# Altium footprint library 74HC14D.PcbLib: 3 footprints
Each footprint in its own frame and in the unit in brackets; x right, y up, seen from the top. Pads: shape width x height; smd on the part's side, far side on the other; paste and mask are expansions set on the pad; w line width, h text height; cw(c..) or ccw(c..) is an arc to the next point about the centre after c.
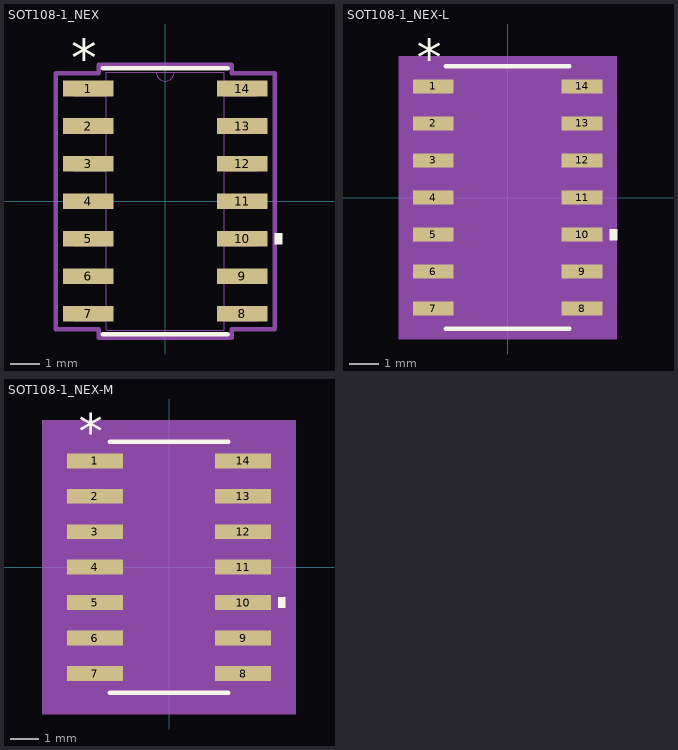
[diagram p0: the footprints below, top view; thin cyan lines are the x and y axes]

## SOT108-1_NEX [mil]
pads (14):
  rect 67x21 smd paste+0 mask+0: 1(-102.5,150) 2(-102.5,100) 3(-102.5,50) 4(-102.5,0) 5(-102.5,-50) 6(-102.5,-100) 7(-102.5,-150) 8(102.5,-150) 9(102.5,-100) 10(102.5,-50) 11(102.5,0) 12(102.5,50) 13(102.5,100) 14(102.5,150)
Top Overlay:
  region: 146,-42.5 156,-42.5 156,-57.5 146,-57.5
  lines w6: -83.5,-177 83.5,-177 ; -83.5,177 83.5,177
  text "*" at -125,166 h50
Mechanical 13:
  lines w0: -12,172 ccw(c0,172) 12,172
  lines w1: -122,-159.5 -78.5,-159.5 -78.5,-140.5 -122,-140.5 -122,-159.5 ; -122,-109.5 -78.5,-109.5 -78.5,-90.5 -122,-90.5 -122,-109.5 ; -122,-59.5 -78.5,-59.5 -78.5,-40.5 -122,-40.5 -122,-59.5 ; -122,-9.5 -78.5,-9.5 -78.5,9.5 -122,9.5 -122,-9.5 ; -122,40.5 -78.5,40.5 -78.5,59.5 -122,59.5 -122,40.5 ; -122,90.5 -78.5,90.5 -78.5,109.5 -122,109.5 -122,90.5 ; -122,140.5 -78.5,140.5 -78.5,159.5 -122,159.5 -122,140.5 ; -78.5,-172 -78.5,172 78.5,172 78.5,-172 -78.5,-172 ; 78.5,-159.5 122,-159.5 122,-140.5 78.5,-140.5 78.5,-159.5 ; 78.5,-109.5 122,-109.5 122,-90.5 78.5,-90.5 78.5,-109.5 ; 78.5,-59.5 122,-59.5 122,-40.5 78.5,-40.5 78.5,-59.5 ; 78.5,-9.5 122,-9.5 122,9.5 78.5,9.5 78.5,-9.5 ; 78.5,40.5 122,40.5 122,59.5 78.5,59.5 78.5,40.5 ; 78.5,90.5 122,90.5 122,109.5 78.5,109.5 78.5,90.5 ; 78.5,140.5 122,140.5 122,159.5 78.5,159.5 78.5,140.5
  text "*" at -76,119 h50
Mechanical 15:
  lines w6: -146,-170.5 -88.5,-170.5 -88.5,-182 88.5,-182 88.5,-170.5 146,-170.5 146,170.5 88.5,170.5 88.5,182 -88.5,182 -88.5,170.5 -146,170.5 -146,-170.5
3D body "SOT108-1_NEX.step": height 69.09, standoff 0, extent -122.01,-172.01 122.01,172.01

## SOT108-1_NEX-L [mil]
pads (14):
  rect 55x19 smd paste+0 mask+0: 1(-100.5,150) 2(-100.5,100) 3(-100.5,50) 4(-100.5,0) 5(-100.5,-50) 6(-100.5,-100) 7(-100.5,-150) 8(100.5,-150) 9(100.5,-100) 10(100.5,-50) 11(100.5,0) 12(100.5,50) 13(100.5,100) 14(100.5,150)
Top Overlay:
  region: 138,-42.5 148,-42.5 148,-57.5 138,-57.5
  lines w6: -83.5,-177 83.5,-177 ; -83.5,177 83.5,177
  text "*" at -123,164 h50
Mechanical 5:
  region: 147,-191 -147,-191 -147,191 147,191
Mechanical 13:
  lines w0: -12,172 ccw(c0,172) 12,172
  lines w1: -122,-159.5 -122,-140.5 -78.5,-140.5 -78.5,-159.5 -122,-159.5 ; -122,-109.5 -122,-90.5 -78.5,-90.5 -78.5,-109.5 -122,-109.5 ; -122,-59.5 -122,-40.5 -78.5,-40.5 -78.5,-59.5 -122,-59.5 ; -122,-9.5 -122,9.5 -78.5,9.5 -78.5,-9.5 -122,-9.5 ; -122,40.5 -122,59.5 -78.5,59.5 -78.5,40.5 -122,40.5 ; -122,90.5 -122,109.5 -78.5,109.5 -78.5,90.5 -122,90.5 ; -122,140.5 -122,159.5 -78.5,159.5 -78.5,140.5 -122,140.5 ; -78.5,-172 78.5,-172 78.5,172 -78.5,172 -78.5,-172 ; 78.5,-159.5 78.5,-140.5 122,-140.5 122,-159.5 78.5,-159.5 ; 78.5,-109.5 78.5,-90.5 122,-90.5 122,-109.5 78.5,-109.5 ; 78.5,-59.5 78.5,-40.5 122,-40.5 122,-59.5 78.5,-59.5 ; 78.5,-9.5 78.5,9.5 122,9.5 122,-9.5 78.5,-9.5 ; 78.5,40.5 78.5,59.5 122,59.5 122,40.5 78.5,40.5 ; 78.5,90.5 78.5,109.5 122,109.5 122,90.5 78.5,90.5 ; 78.5,140.5 78.5,159.5 122,159.5 122,140.5 78.5,140.5
  text "*" at -76,119 h50
Mechanical 15:
  region: -82.5,-163.5 -132,-163.5 -132,163.5 -82.5,163.5 -82.5,176 82.5,176 82.5,163.5 132,163.5 132,-163.5 82.5,-163.5 82.5,-176 -82.5,-176
  lines w6: -132,-163.5 -132,163.5 -82.5,163.5 -82.5,176 82.5,176 82.5,163.5 132,163.5 132,-163.5 82.5,-163.5 82.5,-176 -82.5,-176 -82.5,-163.5 -132,-163.5
3D body "SOT108-1_NEX.step": height 69.09, standoff 0, extent -122.01,-172.01 122.01,172.01

## SOT108-1_NEX-M [mil]
pads (14):
  rect 79x21 smd paste+0 mask+0: 1(-104.5,150) 2(-104.5,100) 3(-104.5,50) 4(-104.5,0) 5(-104.5,-50) 6(-104.5,-100) 7(-104.5,-150) 8(104.5,-150) 9(104.5,-100) 10(104.5,-50) 11(104.5,0) 12(104.5,50) 13(104.5,100) 14(104.5,150)
Top Overlay:
  region: 154,-42.5 164,-42.5 164,-57.5 154,-57.5
  lines w6: -83.5,-177 83.5,-177 ; -83.5,177 83.5,177
  text "*" at -127,166 h50
Mechanical 5:
  region: 179,-207 -179,-207 -179,207 179,207
Mechanical 13:
  lines w0: -12,172 ccw(c0,172) 12,172
  lines w1: -122,-159.5 -122,-140.5 -78.5,-140.5 -78.5,-159.5 -122,-159.5 ; -122,-109.5 -122,-90.5 -78.5,-90.5 -78.5,-109.5 -122,-109.5 ; -122,-59.5 -122,-40.5 -78.5,-40.5 -78.5,-59.5 -122,-59.5 ; -122,-9.5 -122,9.5 -78.5,9.5 -78.5,-9.5 -122,-9.5 ; -122,40.5 -122,59.5 -78.5,59.5 -78.5,40.5 -122,40.5 ; -122,90.5 -122,109.5 -78.5,109.5 -78.5,90.5 -122,90.5 ; -122,140.5 -122,159.5 -78.5,159.5 -78.5,140.5 -122,140.5 ; -78.5,-172 78.5,-172 78.5,172 -78.5,172 -78.5,-172 ; 78.5,-159.5 78.5,-140.5 122,-140.5 122,-159.5 78.5,-159.5 ; 78.5,-109.5 78.5,-90.5 122,-90.5 122,-109.5 78.5,-109.5 ; 78.5,-59.5 78.5,-40.5 122,-40.5 122,-59.5 78.5,-59.5 ; 78.5,-9.5 78.5,9.5 122,9.5 122,-9.5 78.5,-9.5 ; 78.5,40.5 78.5,59.5 122,59.5 122,40.5 78.5,40.5 ; 78.5,90.5 78.5,109.5 122,109.5 122,90.5 78.5,90.5 ; 78.5,140.5 78.5,159.5 122,159.5 122,140.5 78.5,140.5
  text "*" at -76,119 h50
Mechanical 15:
  region: -98.5,-180.5 -164,-180.5 -164,180.5 -98.5,180.5 -98.5,192 98.5,192 98.5,180.5 164,180.5 164,-180.5 98.5,-180.5 98.5,-192 -98.5,-192
  lines w6: -164,-180.5 -164,180.5 -98.5,180.5 -98.5,192 98.5,192 98.5,180.5 164,180.5 164,-180.5 98.5,-180.5 98.5,-192 -98.5,-192 -98.5,-180.5 -164,-180.5
3D body "SOT108-1_NEX.step": height 69.09, standoff 0, extent -122.01,-172.01 122.01,172.01